# EAGLE library part ATMEGA328P (library my_devices)
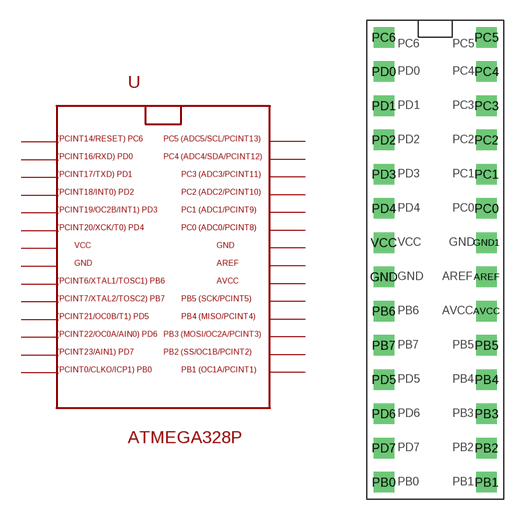
[diagram p10: symbol with the pads of ATMEGA328P; footprint ATMEGA328P]

Designator prefix U

## ATMEGA328P  [ATMEGA328P]
AREF  AREF
AVCC  AVCC  pwr
GND  GND  pwr
GND1  GND1  pwr
PB0  PB0
PB1  PB1
PB2  PB2
PB3  PB3
PB4  PB4
PB5  PB5
PB6  PB6
PB7  PB7
PC0  PC0
PC1  PC1
PC2  PC2
PC3  PC3
PC4  PC4
PC5  PC5
PC6  PC6
PD0  PD0
PD1  PD1
PD2  PD2
PD3  PD3
PD4  PD4
PD5  PD5
PD6  PD6
PD7  PD7
VCC  VCC  pwr

## Footprint ATMEGA328P (pad centres in mm)
drill 1 square: AREF 3.81,-2.54; AVCC 3.81,-5.08; GND -3.81,-2.54; GND1 3.81,0; PB0 -3.81,-17.78; PB1 3.81,-17.78; PB2 3.81,-15.24; PB3 3.81,-12.7; PB4 3.81,-10.16; PB5 3.81,-7.62; PB6 -3.81,-5.08; PB7 -3.81,-7.62; PC0 3.81,2.54; PC1 3.81,5.08; PC2 3.81,7.62; PC3 3.81,10.16; PC4 3.81,12.7; PC5 3.81,15.24; PC6 -3.81,15.24; PD0 -3.81,12.7; PD1 -3.81,10.16; PD2 -3.81,7.62; PD3 -3.81,5.08; PD4 -3.81,2.54; PD5 -3.81,-10.16; PD6 -3.81,-12.7; PD7 -3.81,-15.24; VCC -3.81,0